# EAGLE library part WE-RJ45_7498011211 (library Wurth_Signal & Communications_WE-RJ45_LAN)
WE-RJ45 LAN Transformer Characteristics RJ45 Connector with integrated transformer / common mode choke Power over Ethernet up to 50 Watt and speeds up to 10 Gbit/s Available in SMD, THT and THT with USB Compliant with standards: IEEE 802.3u, IEEE 802.3ab, IEEE 802.3af, IEEE 802.3at, IEEE 802.3an and upcoming IEE 802.3bt Applications Suitable for industrial temperatures from –40 °C up to +85 °C Compatible to Industrial Ethernet systems like EtherCAT or Profinet Compliant with most IC’s for Ethernet applications such as Microchip, Texas Instruments, Broadcom, Linear Technology Hubs, Routers, Switches, IP cameras, IoT applications <https://www.we-online.com/components/media/o35731v209%20Family-WE-RJ45LAN-7499xxxxxx.jpg> Details see: www.we-online.com/components/products/WE-LAN-RJ45 <www.we-online.com/catalog/WE-LAN-RJ45/?utm_source=eagle_model&utm_medium=description_link&utm_campaign=eisos_eagle> Updated by Ella Wu 2023-08-16 2023 (C) Wurth Elektronik
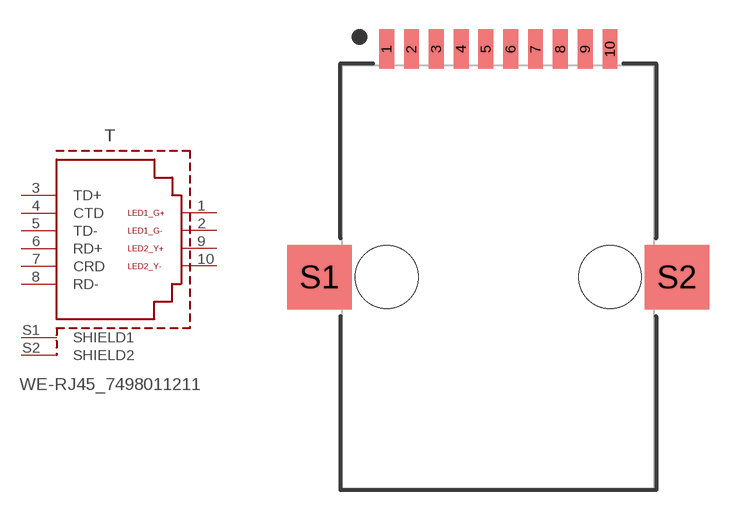
[diagram p68: symbol with the pads of 7498011211; footprint 7498011211]

Designator prefix T

## WE-RJ45_7498011211 (DATA-RATE: 10/100 Base-T; DATASHEET-URL: https://www.we-online.com/redexpert/spec/7498011211?ae; LED: green-yellow; MOUNT: SMT; PART-NUMBER: 7498011211; POE: non-PoE; PORTS: 1; USB: No; VALUE: 7498011211)  [7498011211]
1  LED1_G+  pas
2  LED1_G-  pas
3  TD+  pas
4  CTD  pas
5  TD-  pas
6  RD+  pas
7  CRD  pas
8  RD-  pas
9  LED2_Y+  pas
10  LED2_Y-  pas
S1  SHIELD1  pas
S2  SHIELD2  pas

## Footprint 7498011211 (pad centres in mm)
WE-RJ45 LAN Transformer 10/100 Base-T
smd 0.76 x 2.03: 1 -5.715,11.68; 2 -4.445,11.68; 3 -3.175,11.68; 4 -1.905,11.68; 5 -0.635,11.68; 6 0.635,11.68; 7 1.905,11.68; 8 3.175,11.68; 9 4.445,11.68; 10 5.715,11.68
smd 3.3 x 3.3: S1 -9.145,0; S2 9.145,0
hole 3.22 at 5.715,0
hole 3.22 at -5.715,0